# EAGLE library part CONN_08 (library sullins-connector)
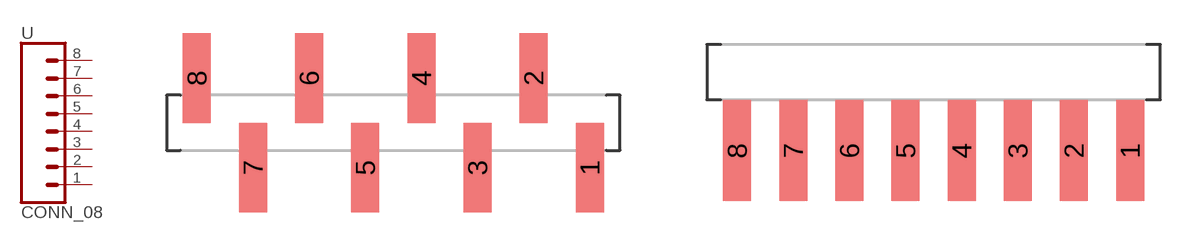
[diagram p0: symbol with the pads of 1X08_SMD; footprints 1X08_SMD, 1X08_SMT]

Designator prefix -

## CONN_08SMD  [1X08_SMD]
1  1  pas
2  2  pas
3  3  pas
4  4  pas
5  5  pas
6  6  pas
7  7  pas
8  8  pas

## CONN_08SMT  [1X08_SMT]
Pads as for 1X08_SMD

## CONN_08SMT_NOCREAM  [1X08_SMT_NOCREAM]
Pads as for 1X08_SMD

## Footprint 1X08_SMD (pad centres in mm)
smd 1.27 x 4.064: 1 0,-2.032; 2 -2.54,2.032; 3 -5.08,-2.032; 4 -7.62,2.032; 5 -10.16,-2.032; 6 -12.7,2.032; 7 -15.24,-2.032; 8 -17.78,2.032

## Footprint 1X08_SMT (pad centres in mm)
smd 1.27 x 4.572: 1 0,-3.556; 2 -2.54,-3.556; 3 -5.08,-3.556; 4 -7.62,-3.556; 5 -10.16,-3.556; 6 -12.7,-3.556; 7 -15.24,-3.556; 8 -17.78,-3.556

## Footprint 1X08_SMT_NOCREAM (pad centres in mm)
smd 1.27 x 4.572: 1 0,-3.556; 2 -2.54,-3.556; 3 -5.08,-3.556; 4 -7.62,-3.556; 5 -10.16,-3.556; 6 -12.7,-3.556; 7 -15.24,-3.556; 8 -17.78,-3.556